# EAGLE library part NUF2042XV6 (library PX4FMUlite_V0_1)
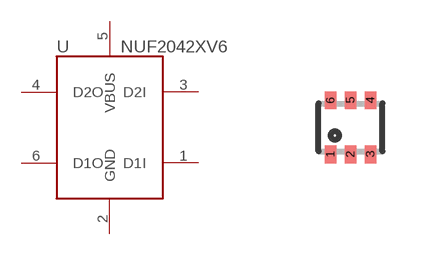
[diagram p16: symbol with the pads of SOT563-6; footprint SOT563-6]

Designator prefix -

## NUF2042XV6  [SOT563-6]
1  D1I
2  GND
3  D2I
4  D2O
5  VBUS
6  D1O

## Footprint SOT563-6 (pad centres in mm)
smd 0.3 x 0.45: 1 -0.5,-0.675; 2 0,-0.675; 3 0.5,-0.675; 4 0.5,0.675; 5 0,0.675; 6 -0.5,0.675